# Altium footprint library RF_Cape.PcbLib: 19 footprints (part 1 of 2)
Each footprint in its own frame and in the unit in brackets; x right, y up, seen from the top. Pads: shape width x height; smd on the part's side, far side on the other; paste and mask are expansions set on the pad; w line width, h text height; cw(c..) or ccw(c..) is an arc to the next point about the centre after c.
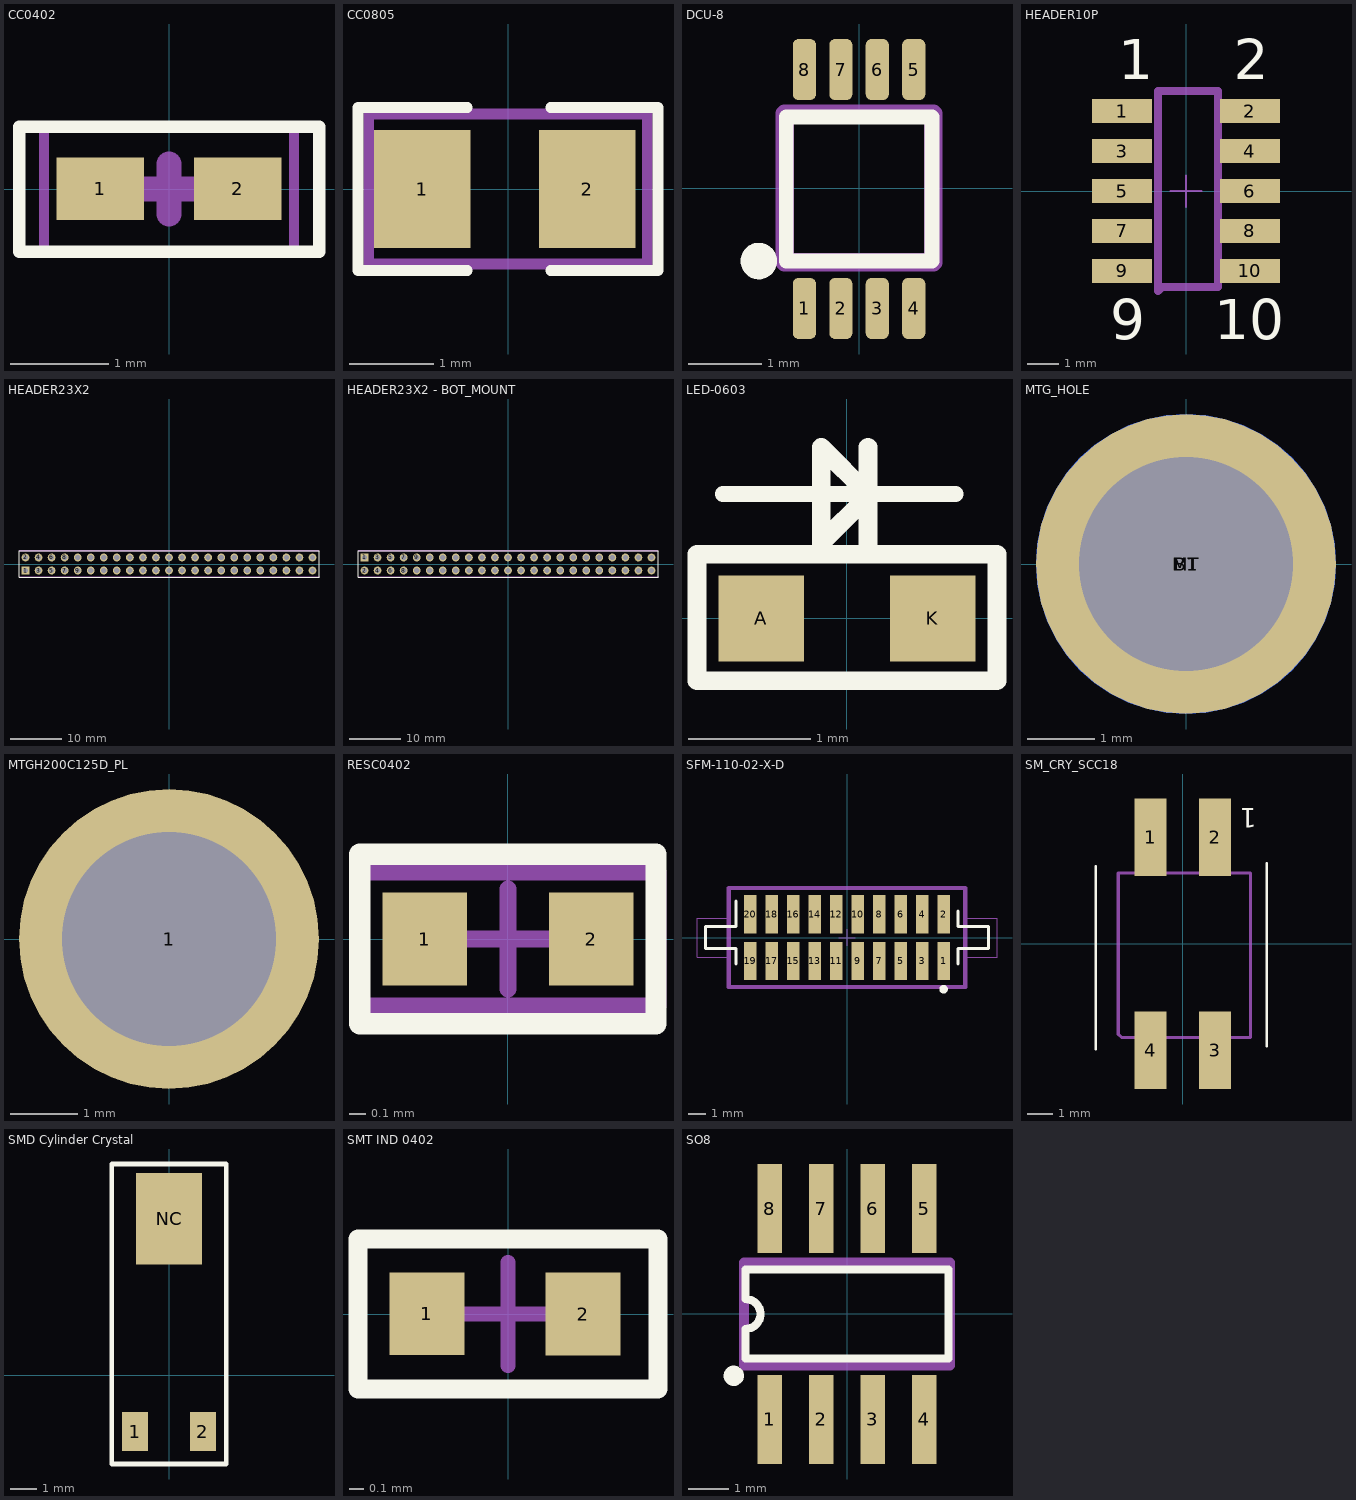
[diagram p0: the footprints below, top view; thin cyan lines are the x and y axes]

## CC0402 [mil] "Chip Capacitor, Body 1.0x0.5mm, IPC Low Density"
pads (2):
  rect 35x25 smd: 1(-27.56,0) 2(27.56,0)
Top Overlay:
  lines w5: -60,-25 60,-25 60,25 -60,25 -60,-25
Mechanical 15:
  lines w3.94: -50,-25 50,-25 50,25 -50,25 -50,-25
  lines w10: -10,0 10,0 0,0 0,-10 0,10
3D body: height 10, standoff 0, extent -21.65,-11.81 21.65,11.81

## CC0805 [mil]
pads (2):
  rect 45x55 smd: 1(-40,0) 2(37,0)
Top Overlay:
  lines w5: -19,-38 -70,-38 -70,38 -19,38 ; 20,-38 70,-38 70,38 20,38
Mechanical 15:
  lines w5: -65,-35 -65,35 65,35 65,-35 -65,-35
3D body: height 20, standoff 0, extent -45,-20 40,20

## CC2538 [mil]
3D body: height 300, standoff 0, extent 1400.79,1000.2 1600,1199.81
3D body: height 40, standoff 0, extent 0,0 2000,1550
3D body: height 200, standoff 0, extent 200,1245 900,1545
3D body: height 200, standoff 0, extent 200,-5 900,295

## DCU-8 [mil] "Dual Little Logic"
pads (8):
  rrect50% 12.5x33 smd mask+1.5: 1(-29.53,-64.96) 2(-9.84,-64.96) 3(9.84,-64.96) 4(29.53,-64.96) 5(29.53,63.98) 6(9.84,63.98) 7(-9.84,63.98) 8(-29.53,63.98)
Top Overlay:
  circle w9.84: c-54.13,-39.37 r4.92
  lines w7.87: -39.37,-39.37 39.37,-39.37 39.37,38.39 -39.37,38.39 -39.37,-39.37
Mechanical 15:
  lines w10: -40,40 -40,-40 40,-40 40,40 ; -40,40 40,40 ; -40,40 40,40
3D body: height 40, standoff 0, extent -40,-42.5 40,42.5

## HEADER10P [mil] "CC Debugg 0.50LS Dual Row"
pads (10):
  rect 75x30 smd: 1(-80,100) 2(80,100) 3(-80,50) 4(80,50) 5(-80,0) 6(80,0) 7(-80,-50) 8(80,-50) 9(-80,-100) 10(80,-100)
Top Overlay:
  text "1" at -85,140 h50
  text "2" at 60,140 h50
  text "9" at -95,-185 h50
  text "10" at 35,-185 h50
Mechanical 15:
  lines w1.97: -19.68,0 19.68,0 ; 0,-20 0,19.37
  lines w10: -35,-125 -35,125 40,125 40,-120 -30,-120 ; -35,-125 -30,-120 ; -35,-125 -30,-120
3D body: height 200, standoff 0, extent -40,-125 40,125

## HEADER23X2 [mil] "HEADER23X2"
pads (46):
  rect 60x60 hole 40: 1(-1100,-50)
  round 60 hole 40: 2(-1100,50) 3(-1000,-50) 4(-1000,50) 5(-900,-50) 6(-900,50) 7(-800,-50) 8(-800,50) 9(-700,-50) 10(-700,50) 11(-600,-50) 12(-600,50) 13(-500,-50) 14(-500,50) 15(-400,-50) 16(-400,50) 17(-300,-50) 18(-300,50) 19(-200,-50) 20(-200,50) 21(-100,-50) 22(-100,50) 23(0,-50) 24(0,50) 25(100,-50) 26(100,50) 27(200,-50) 28(200,50) 29(300,-50) 30(300,50) 31(400,-50) 32(400,50) 33(500,-50) 34(500,50) 35(600,-50) 36(600,50) 37(700,-50) 38(700,50) 39(800,-50) 40(800,50) 41(900,-50) 42(900,50) 43(1000,-50) 44(1000,50) 45(1100,-50) 46(1100,50)
Top Overlay:
  lines w5: -1150,-100 -1150,100 -1050,100 1150,100 1150,-100 -1050,-100 -1150,-100
Mechanical 15:
  lines w10: -1150,-100 1150,-100 ; -1150,100 1150,100
3D body: height 100, standoff 0, extent -1150,-100 1150,100
3D body: height 330, standoff -100, extent -1110,-60 -1090,-40
3D body: height 330, standoff -100, extent -1110,40 -1090,60
3D body: height 330, standoff -100, extent -1010,40 -990,60
3D body: height 330, standoff -100, extent -1010,-60 -990,-40
3D body: height 330, standoff -100, extent -810,-60 -790,-40
3D body: height 330, standoff -100, extent -810,40 -790,60
3D body: height 330, standoff -100, extent -910,40 -890,60
3D body: height 330, standoff -100, extent -910,-60 -890,-40
3D body: height 330, standoff -100, extent -510,-60 -490,-40
3D body: height 330, standoff -100, extent -510,40 -490,60
3D body: height 330, standoff -100, extent -410,40 -390,60
3D body: height 330, standoff -100, extent -410,-60 -390,-40
3D body: height 330, standoff -100, extent -610,-60 -590,-40
3D body: height 330, standoff -100, extent -610,40 -590,60
3D body: height 330, standoff -100, extent -710,40 -690,60
3D body: height 330, standoff -100, extent -710,-60 -690,-40
3D body: height 330, standoff -100, extent 90,-60 110,-40
3D body: height 330, standoff -100, extent 90,40 110,60
3D body: height 330, standoff -100, extent 190,40 210,60
3D body: height 330, standoff -100, extent 190,-60 210,-40
3D body: height 330, standoff -100, extent 390,-60 410,-40
3D body: height 330, standoff -100, extent 390,40 410,60
3D body: height 330, standoff -100, extent 290,40 310,60
3D body: height 330, standoff -100, extent 290,-60 310,-40
3D body: height 330, standoff -100, extent -110,-60 -90,-40
3D body: height 330, standoff -100, extent -110,40 -90,60
3D body: height 330, standoff -100, extent -10,40 10,60
3D body: height 330, standoff -100, extent -10,-60 10,-40
3D body: height 330, standoff -100, extent -210,-60 -190,-40
3D body: height 330, standoff -100, extent -210,40 -190,60
3D body: height 330, standoff -100, extent -310,40 -290,60
3D body: height 330, standoff -100, extent -310,-60 -290,-40
3D body: height 330, standoff -100, extent 790,-60 810,-40
3D body: height 330, standoff -100, extent 790,40 810,60
3D body: height 330, standoff -100, extent 890,40 910,60
3D body: height 330, standoff -100, extent 890,-60 910,-40
3D body: height 330, standoff -100, extent 990,40 1010,60
3D body: height 330, standoff -100, extent 990,-60 1010,-40
3D body: height 330, standoff -100, extent 490,40 510,60
3D body: height 330, standoff -100, extent 490,-60 510,-40
3D body: height 330, standoff -100, extent 690,-60 710,-40
3D body: height 330, standoff -100, extent 690,40 710,60
3D body: height 330, standoff -100, extent 1090,-60 1110,-40
3D body: height 330, standoff -100, extent 1090,40 1110,60

## HEADER23X2 - BOT_MOUNT [mil] "HEADER23X2"
pads (46):
  rect 60x60 hole 40: 1(-1100,50)
  round 60 hole 40: 2(-1100,-50) 3(-1000,50) 4(-1000,-50) 5(-900,50) 6(-900,-50) 7(-800,50) 8(-800,-50) 9(-700,50) 10(-700,-50) 11(-600,50) 12(-600,-50) 13(-500,50) 14(-500,-50) 15(-400,50) 16(-400,-50) 17(-300,50) 18(-300,-50) 19(-200,50) 20(-200,-50) 21(-100,50) 22(-100,-50) 23(0,50) 24(0,-50) 25(100,50) 26(100,-50) 27(200,50) 28(200,-50) 29(300,50) 30(300,-50) 31(400,50) 32(400,-50) 33(500,50) 34(500,-50) 35(600,50) 36(600,-50) 37(700,50) 38(700,-50) 39(800,50) 40(800,-50) 41(900,50) 42(900,-50) 43(1000,50) 44(1000,-50) 45(1100,50) 46(1100,-50)
Top Overlay:
  lines w5: -1150,-100 -1150,100 -1050,100 1150,100 1150,-100 -1050,-100 -1150,-100
Mechanical 15:
  lines w10: -1150,-100 1150,-100 ; -1150,100 1150,100
3D body: height 330, standoff -100, extent 1090,-60 1110,-40
3D body: height 330, standoff -100, extent 1090,40 1110,60
3D body: height 330, standoff -100, extent 590,40 610,60
3D body: height 330, standoff -100, extent 590,-60 610,-40
3D body: height 330, standoff -100, extent 690,-60 710,-40
3D body: height 330, standoff -100, extent 690,40 710,60
3D body: height 330, standoff -100, extent 490,40 510,60
3D body: height 330, standoff -100, extent 490,-60 510,-40
3D body: height 330, standoff -100, extent 990,40 1010,60
3D body: height 330, standoff -100, extent 990,-60 1010,-40
3D body: height 330, standoff -100, extent 890,40 910,60
3D body: height 330, standoff -100, extent 890,-60 910,-40
3D body: height 330, standoff -100, extent 790,-60 810,-40
3D body: height 330, standoff -100, extent 790,40 810,60
3D body: height 330, standoff -100, extent -310,40 -290,60
3D body: height 330, standoff -100, extent -310,-60 -290,-40
3D body: height 330, standoff -100, extent -210,-60 -190,-40
3D body: height 330, standoff -100, extent -210,40 -190,60
3D body: height 330, standoff -100, extent -10,40 10,60
3D body: height 330, standoff -100, extent -10,-60 10,-40
3D body: height 330, standoff -100, extent -110,-60 -90,-40
3D body: height 330, standoff -100, extent -110,40 -90,60
3D body: height 330, standoff -100, extent 290,40 310,60
3D body: height 330, standoff -100, extent 290,-60 310,-40
3D body: height 330, standoff -100, extent 390,-60 410,-40
3D body: height 330, standoff -100, extent 390,40 410,60
3D body: height 330, standoff -100, extent 190,40 210,60
3D body: height 330, standoff -100, extent 190,-60 210,-40
3D body: height 330, standoff -100, extent 90,-60 110,-40
3D body: height 330, standoff -100, extent 90,40 110,60
3D body: height 330, standoff -100, extent -710,40 -690,60
3D body: height 330, standoff -100, extent -710,-60 -690,-40
3D body: height 330, standoff -100, extent -610,-60 -590,-40
3D body: height 330, standoff -100, extent -610,40 -590,60
3D body: height 330, standoff -100, extent -410,40 -390,60
3D body: height 330, standoff -100, extent -410,-60 -390,-40
3D body: height 330, standoff -100, extent -510,-60 -490,-40
3D body: height 330, standoff -100, extent -510,40 -490,60
3D body: height 330, standoff -100, extent -910,40 -890,60
3D body: height 330, standoff -100, extent -910,-60 -890,-40
3D body: height 330, standoff -100, extent -810,-60 -790,-40
3D body: height 330, standoff -100, extent -810,40 -790,60
3D body: height 330, standoff -100, extent -1010,40 -990,60
3D body: height 330, standoff -100, extent -1010,-60 -990,-40
3D body: height 330, standoff -100, extent -1110,-60 -1090,-40
3D body: height 330, standoff -100, extent -1110,40 -1090,60
3D body: height 100, standoff 0, extent -1150,-100 1150,100

## LED-0603 [mm]
pads (2):
  rect 0.7x0.7 smd: A(-0.7,0) K(0.7,0)
Top Overlay:
  lines w0.127: -1.016,1.016 0.889,1.016
  lines w0.152: -1.225,0.525 -1.225,-0.508 1.225,-0.508 1.225,0.525 -1.2,0.525 ; 0.172,0.618 0.172,1.397 ; -0.209,0.618 -0.209,1.397 0.172,1.016 0.172,0.999 -0.209,0.618
3D body: height 0.76, standoff 0, extent -0.762,-0.381 0.762,0.381

## MTG_HOLE [mil] "Mounting Hole"
pads (2):
  round 175 smd far side: B1(0,0)
  round 175 hole 125 mask+5: MT(0,0)

## MTGH200C125D_PL [mil] "MTGH200C125D_PL"
pads (1):
  round 175 hole 125: 1(0,0)

## RESC0402 [mil] "Chip Resistor, Body 1.1x0.5mm, IPC High Density"
pads (2):
  rect 20x22 smd: 1(-19.68,0) 2(19.69,0)
Top Overlay:
  lines w5: -35,-20 35,-20 35,20 -35,20 -35,-20
Mechanical 15:
  lines w3.94: -11.81,0 11.81,0 ; 0,-11.81 0,11.81 ; -35.43,-15.75 -35.43,15.75 35.43,15.75 35.43,-15.75 -35.43,-15.75
3D body: height 10, standoff 0, extent -20,-10 20,10

## SFM-110-02-X-D [mm] "1.27mm pitch, 20 pin, socket strip; SMT"
height 4.57
pads (20):
  rect 0.75x2.25 smd mask+0: 1(5.715,-1.375) 2(5.715,1.375) 3(4.445,-1.375) 4(4.445,1.375) 5(3.175,-1.375) 6(3.175,1.375) 7(1.905,-1.375) 8(1.905,1.375) 9(0.635,-1.375) 10(0.635,1.375) 11(-0.635,-1.375) 12(-0.635,1.375) 13(-1.905,-1.375) 14(-1.905,1.375) 15(-3.175,-1.375) 16(-3.175,1.375) 17(-4.445,-1.375) 18(-4.445,1.375) 19(-5.715,-1.375) 20(-5.715,1.375)
Top Overlay:
  circle w0.25: c5.7,-3.05 r0.125
  lines w0.2: -6.55,-1.55 -6.55,-0.65 -8.35,-0.65 -8.35,0.65 -6.55,0.65 -6.55,2.15 ; 6.55,-1.55 6.55,-0.65 8.35,-0.65 8.35,0.65 6.55,0.65 6.55,1.55
Mechanical 14:
  lines w0.254: -6.985,-2.921 -6.985,2.921 6.985,2.921 6.985,-2.921 -6.985,-2.921
Mechanical 15:
  lines w0.05: -0.5,0 0.5,0 ; 0,-0.5 0,0.5 ; -8.85,-1.15 -8.85,1.15 -7.05,1.15 -7.05,3 7.05,3 7.05,1.15 8.85,1.15 8.85,-1.15 7.05,-1.15 7.05,-3 -7.05,-3 -7.05,-1.15 -8.85,-1.15

## SM_CRY_SCC18 [mil]
pads (4):
  rect 50x120 smd: 1(-50,165) 2(50,165) 3(50,-165) 4(-50,-165)
Top Overlay:
  lines w4: -135,-163.46 -135,120 ; 130,-158.46 130,125
  text "1" at 115,210 h30
Mechanical 15:
  lines w5: -100,-140 -95,-145 105,-145 105,110 -100,110 -100,-140
3D body: height 162, standoff 0, extent -130,-125 130,115

## SMD Cylinder Crystal [mm] "Tuning Fork"
pads (3):
  rect 1x1.5 smd: 1(-1.3,-2.159) 2(1.3,-2.159)
  rect 2.54x3.5 smd: NC(0,6)
Top Overlay:
  lines w0.178: -2.2,-3.4 -2.2,8.1 2.2,8.1 2.2,-3.4 -2.2,-3.4
3D body: height 1.99, standoff 0, extent -1,-2.1 0.996,5.9

## SMT IND 0402 [mil] "Chip Inductor, Body 1.0x0.5mm, IPC Medium Density"
pads (2):
  rect 20x22 smd: 1(-21.65,0) 2(20,0)
Top Overlay:
  lines w5: -40,-20 -40,20 40,20 40,-20 -40,-20
Mechanical 15:
  lines w3.94: -13.78,0 13.78,0 ; 0,-13.78 0,13.78 ; -40,-20 40,-20 40,20 -21.45,20 -40,20 -40,-20
3D body: height 10, standoff 0, extent -20,-10 20,10

## SO8 [mm] "Small Outline; 8 Leads; Body Width 3.9 mm; Pitch 1.27 mm"
pads (8):
  rect 0.6x2.2 smd: 1(-1.905,-2.6) 2(-0.635,-2.6) 3(0.635,-2.6) 4(1.905,-2.6) 5(1.905,2.6) 6(0.635,2.6) 7(-0.635,2.6) 8(-1.905,2.6)
Top Overlay:
  circle w0.25: c-2.792,-1.524 r0.125
  lines w0.2: -2.5,-1.1 -2.5,-0.367 ccw(c-2.5,0) -2.5,0.367 -2.5,1.1 2.5,1.1 2.5,-1.1 -2.5,-1.1
Mechanical 15:
  lines w0.254: -2.54,-1.27 -2.54,1.27 2.54,1.27 2.54,-1.27 -2.54,-1.27
3D body: height 0.76, standoff 0, extent -2.54,-1.27 2.54,1.27